# EAGLE library part C19 (library con-ninigi-3.96)
NINIGI
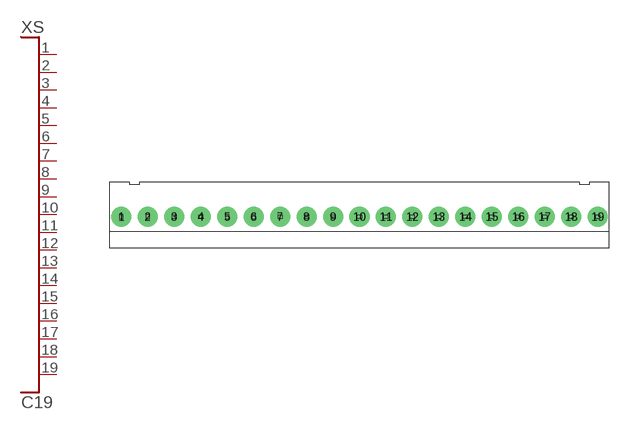
[diagram p13: symbol with the pads of NINIGI19C; footprint NINIGI19C]

Designator prefix XS

## C19  [NINIGI19C]
1  P$1
2  P$2
3  P$3
4  P$4
5  P$5
6  P$6
7  P$7
8  P$8
9  P$9
10  P$10
11  P$11
12  P$12
13  P$13
14  P$14
15  P$15
16  P$16
17  P$17
18  P$18
19  P$19

## Footprint NINIGI19C (pad centres in mm)
drill 1.6 pad 3: 1 -35.64,0; 2 -31.68,0; 3 -27.72,0; 4 -23.76,0; 5 -19.8,0; 6 -15.84,0; 7 -11.88,0; 8 -7.92,0; 9 -3.96,0; 10 0,0; 11 3.96,0; 12 7.92,0; 13 11.88,0; 14 15.84,0; 15 19.8,0; 16 23.76,0; 17 27.72,0; 18 31.68,0; 19 35.64,0